# EAGLE library part SK6813_X3 (library CustomParts)
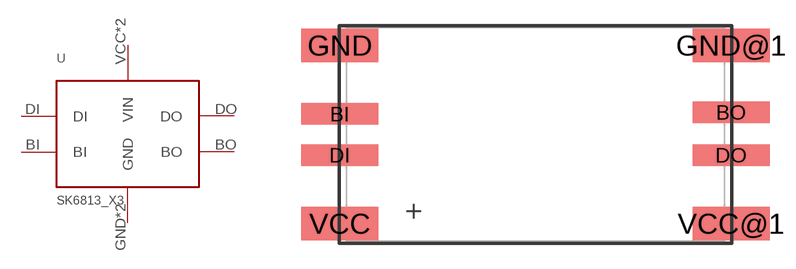
[diagram p12: symbol with the pads of SK6813_X3; footprint SK6813_X3]

Designator prefix -

## SK6813_X3  [SK6813_X3]
BI  BI
BO  BO
DI  DI
DO  DO
GND  GND  pwr
GND@1  GND  pwr
VCC  VIN  pwr
VCC@1  VIN  pwr

## Footprint SK6813_X3 (pad centres in mm)
smd 4.5 x 1.25: BI -11.4,1.2; BO 11.4,1.3; DI -11.4,-1.2; DO 11.4,-1.2
smd 4.5 x 1.93: GND -11.4,5.2; GND@1 11.4,5.2; VCC -11.4,-5.2; VCC@1 11.4,-5.2